# EAGLE library part FLIP_FLOP_SET_RESET (library pimoroni-ics)
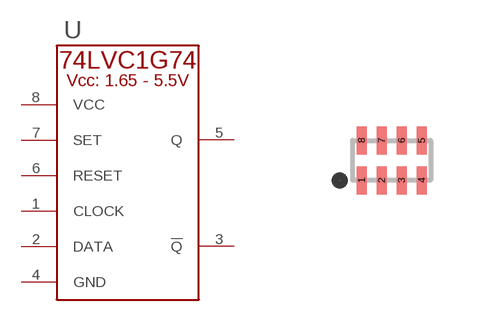
[diagram p134: symbol with the pads of SOT833-1; footprint SOT833-1]

Designator prefix U

## FLIP_FLOP_SET_RESET_74LVC1G74GT  [SOT833-1]
1  CLOCK
2  DATA
3  !Q
4  GND
5  Q
6  RESET
7  SET
8  VCC

## Footprint SOT833-1 (pad centres in mm)
smd 0.25 x 0.7: 1 -0.75,-0.5; 2 -0.25,-0.5; 3 0.25,-0.5; 4 0.75,-0.5; 5 0.75,0.5; 6 0.25,0.5; 7 -0.25,0.5; 8 -0.75,0.5